# EAGLE library part IN-15B (library NixieTube)
IN-15B: medium symbol topview nixie tube
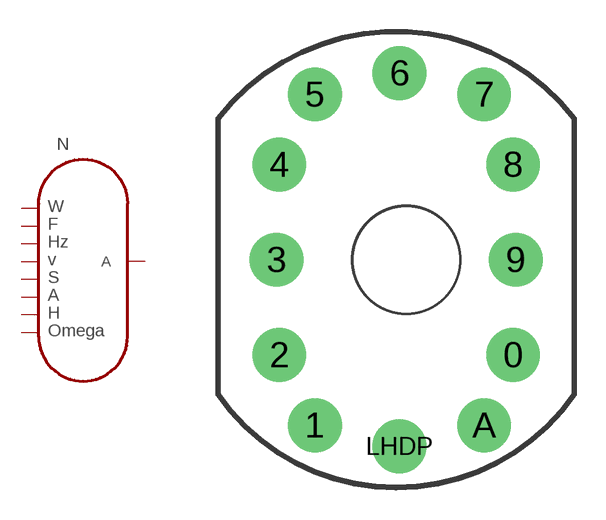
[diagram p16: symbol with the pads of IN-12; footprint IN-12]

Designator prefix N

## IN-15B  [IN-12]
0  P$1
1  P$6
2  P$8
4  P$5
5  P$4
6  P$7
7  P$3
9  P$2
A  A

## Footprint IN-12 (pad centres in mm)
May be used with socket: SK-136
drill 1.1 pad 2.54: 0 5.048,-4.5; 1 -4.317,-7.817; 2 -6,-4.5; 3 -6.127,0; 4 -6,4.5; 5 -4.317,7.817; 6 -0.318,8.818; 7 3.683,7.817; 8 5.048,4.5; 9 5.175,0; A 3.683,-7.817; LHDP -0.318,-8.818
hole 5 at 0,0